# EAGLE library part ULN2003D1013TR (library EE)
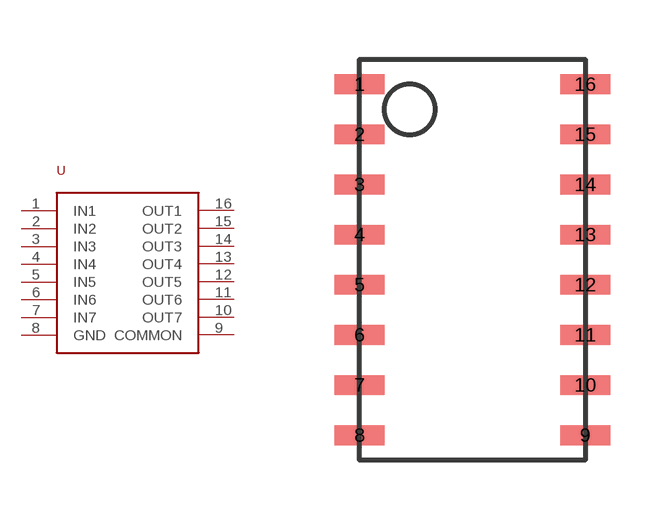
[diagram p9: symbol with the pads of SO16-NARROW; footprint SO16-NARROW]

Designator prefix -

## ULN2003D1013TR  [SO16-NARROW]
1  IN1
2  IN2
3  IN3
4  IN4
5  IN5
6  IN6
7  IN7
8  GND
9  COMMON
10  OUT7
11  OUT6
12  OUT5
13  OUT4
14  OUT3
15  OUT2
16  OUT1

## Footprint SO16-NARROW (pad centres in mm)
smd 1.27 x 0.5: 1 0,8.89; 2 0,7.62; 3 0,6.35; 4 0,5.08; 5 0,3.81; 6 0,2.54; 7 0,1.27; 8 0,0; 9 5.715,0; 10 5.715,1.27; 11 5.715,2.54; 12 5.715,3.81; 13 5.715,5.08; 14 5.715,6.35; 15 5.715,7.62; 16 5.715,8.89